# Altium footprint library rcl@1.PCBLIB: 487 footprints (part 6 of 31)
Each footprint in its own frame and in the unit in brackets; x right, y up, seen from the top. Pads: shape width x height; smd on the part's side, far side on the other; paste and mask are expansions set on the pad; w line width, h text height; cw(c..) or ccw(c..) is an arc to the next point about the centre after c.
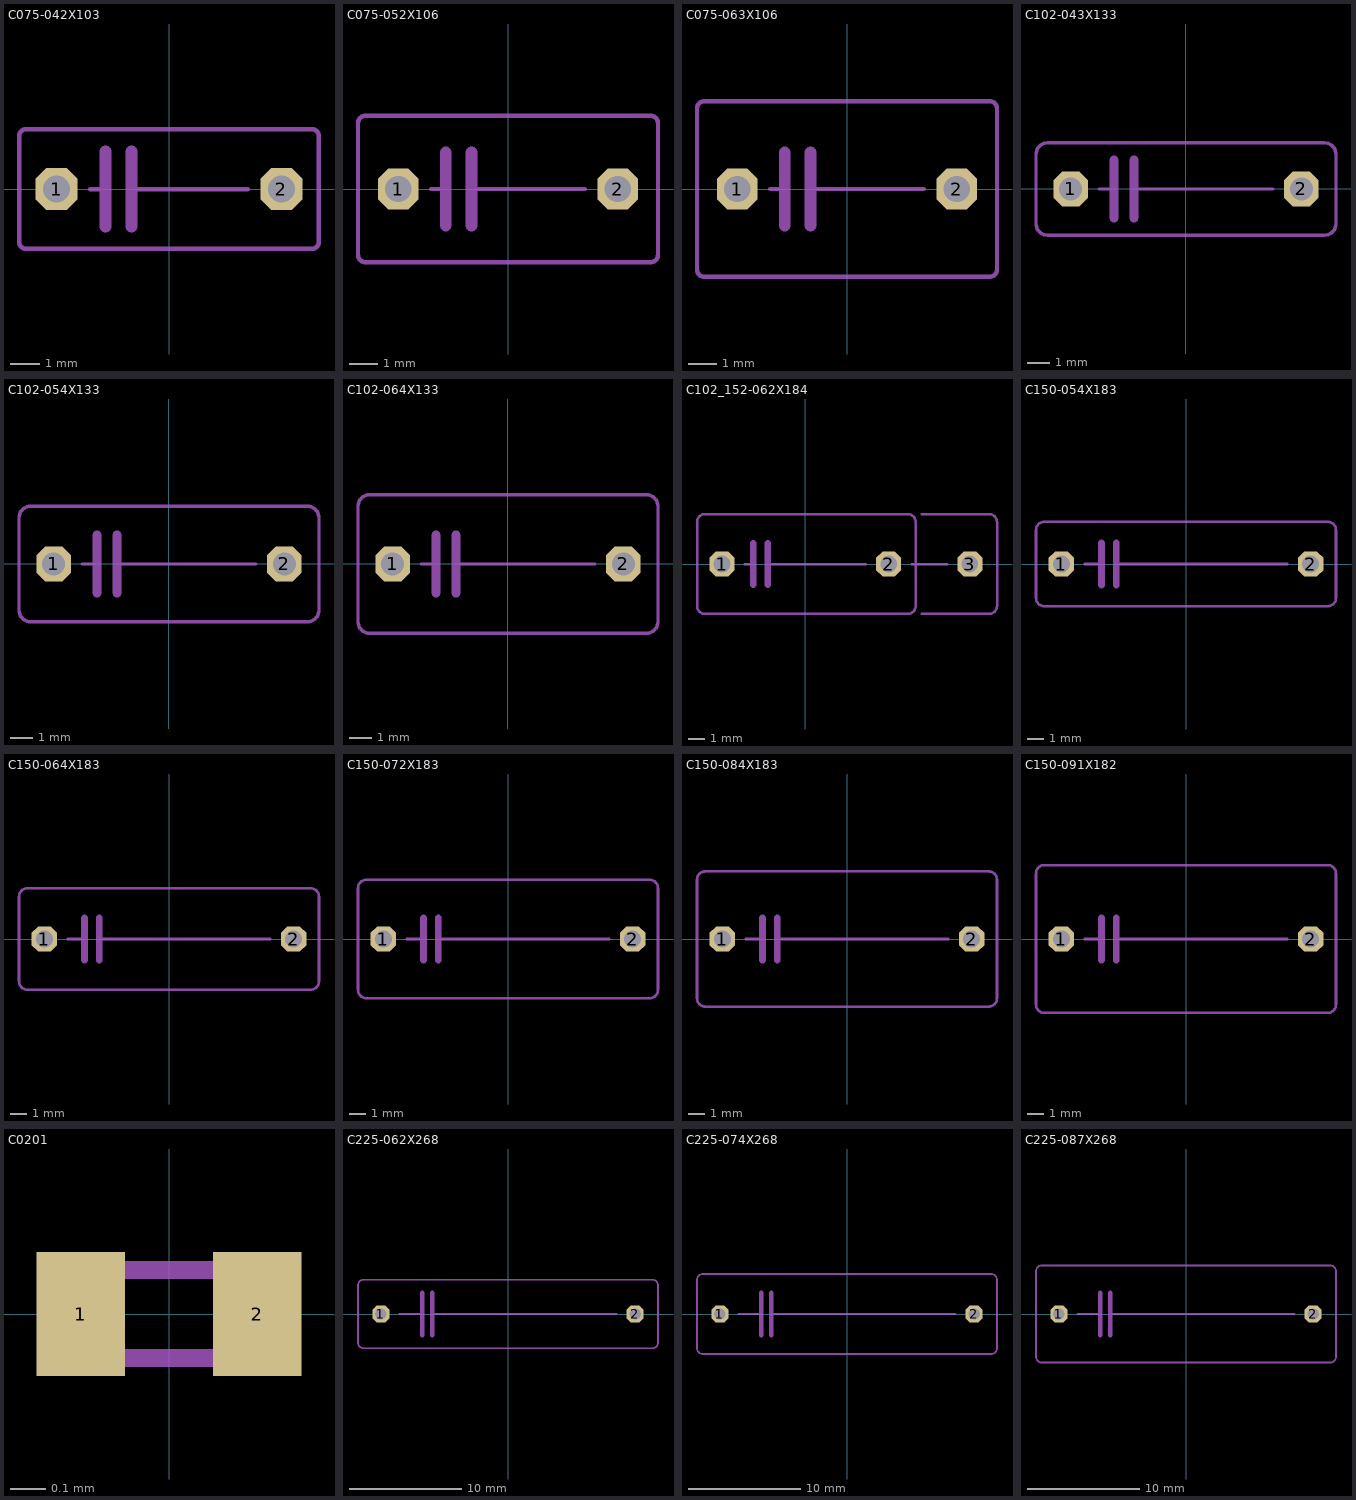
[diagram p5: the footprints below, top view; thin cyan lines are the x and y axes]

## C075-042X103 [mil]
pads (2):
  oct 56x56 / inner round 51.74 / far side oct 56x56 hole 36: 1(-150,0) 2(150,0)
tPlace:
  lines w6: -105,0 -85,0 ; -50,0 105,0 ; -200,-70 -200,70 cw(c-190,70) -190,80 190,80 cw(c190,70) 200,70 200,-70 cw(c190,-70) 190,-80 -190,-80 cw(c-190,-70) -200,-70
  lines w16: -85,-50 -85,0 -85,50 ; -50,-50 -50,0 -50,50

## C075-052X106 [mil]
pads (2):
  oct 56x56 / inner round 51.74 / far side oct 56x56 hole 36: 1(-150,0) 2(150,0)
tPlace:
  lines w6: -105,0 -85,0 ; -50,0 105,0 ; -205,-90 -205,90 cw(c-195,90) -195,100 195,100 cw(c195,90) 205,90 205,-90 cw(c195,-90) 195,-100 -195,-100 cw(c-195,-90) -205,-90
  lines w16: -85,-50 -85,0 -85,50 ; -50,-50 -50,0 -50,50

## C075-063X106 [mil]
pads (2):
  oct 56x56 / inner round 51.74 / far side oct 56x56 hole 36: 1(-150,0) 2(150,0)
tPlace:
  lines w6: -105,0 -85,0 ; -50,0 105,0 ; -205,-110 -205,110 cw(c-195,110) -195,120 195,120 cw(c195,110) 205,110 205,-110 cw(c195,-110) 195,-120 -195,-120 cw(c-195,-110) -205,-110
  lines w16: -85,-50 -85,0 -85,50 ; -50,-50 -50,0 -50,50

## C102-043X133 [mil]
pads (2):
  oct 60x60 / inner round 55.43 / far side oct 60x60 hole 40: 1(-200,0) 2(200,0)
tPlace:
  lines w6: -150,0 -125,0 ; -90,0 150,0 ; -260,-60 -260,60 cw(c-240,60) -240,80 240,80 cw(c240,60) 260,60 260,-60 cw(c240,-60) 240,-80 -240,-80 cw(c-240,-60) -260,-60
  lines w16: -125,-50 -125,0 -125,50 ; -90,-50 -90,0 -90,50

## C102-054X133 [mil]
pads (2):
  oct 60x60 / inner round 55.43 / far side oct 60x60 hole 40: 1(-200,0) 2(200,0)
tPlace:
  lines w6: -150,0 -125,0 ; -90,0 150,0 ; -260,-80 -260,80 cw(c-240,80) -240,100 240,100 cw(c240,80) 260,80 260,-80 cw(c240,-80) 240,-100 -240,-100 cw(c-240,-80) -260,-80
  lines w16: -125,-50 -125,0 -125,50 ; -90,-50 -90,0 -90,50

## C102-064X133 [mil]
pads (2):
  oct 60x60 / inner round 55.43 / far side oct 60x60 hole 40: 1(-200,0) 2(200,0)
tPlace:
  lines w6: -150,0 -125,0 ; -90,0 150,0 ; -260,-100 -260,100 cw(c-240,100) -240,120 240,120 cw(c240,100) 260,100 260,-100 cw(c240,-100) 240,-120 -240,-120 cw(c-240,-100) -260,-100
  lines w16: -125,-50 -125,0 -125,50 ; -90,-50 -90,0 -90,50

## C102_152-062X184 [mil]
pads (3):
  oct 60x60 / inner round 55.43 / far side oct 60x60 hole 40: 1(-200,0) 2(200,0) 3(395,0)
tPlace:
  lines w6: -145,0 -125,0 ; -90,0 145,0 ; 255,0 340,0 ; 280,-120 440,-120 ccw(c440,-100) 460,-100 460,100 ccw(c440,100) 440,120 280,120 ; -260,-100 -260,100 cw(c-240,100) -240,120 245,120 cw(c245,100) 265,100 265,-100 cw(c245,-100) 245,-120 -240,-120 cw(c-240,-100) -260,-100
  lines w16: -125,-50 -125,0 -125,50 ; -90,-50 -90,0 -90,50

## C150-054X183 [mil]
pads (2):
  oct 60x60 / inner round 55.43 / far side oct 60x60 hole 40: 1(-295,0) 2(295,0)
tPlace:
  lines w6: -240,0 -200,0 ; -165,0 240,0 ; -355,-80 -355,80 cw(c-335,80) -335,100 335,100 cw(c335,80) 355,80 355,-80 cw(c335,-80) 335,-100 -335,-100 cw(c-335,-80) -355,-80
  lines w16: -200,-50 -200,0 -200,50 ; -165,-50 -165,0 -165,50

## C150-064X183 [mil]
pads (2):
  oct 60x60 / inner round 55.43 / far side oct 60x60 hole 40: 1(-295,0) 2(295,0)
tPlace:
  lines w6: -240,0 -200,0 ; -165,0 240,0 ; -355,-100 -355,100 cw(c-335,100) -335,120 335,120 cw(c335,100) 355,100 355,-100 cw(c335,-100) 335,-120 -335,-120 cw(c-335,-100) -355,-100
  lines w16: -200,-50 -200,0 -200,50 ; -165,-50 -165,0 -165,50

## C150-072X183 [mil]
pads (2):
  oct 60x60 / inner round 55.43 / far side oct 60x60 hole 40: 1(-295,0) 2(295,0)
tPlace:
  lines w6: -240,0 -200,0 ; -165,0 240,0 ; -355,-120 -355,120 cw(c-335,120) -335,140 335,140 cw(c335,120) 355,120 355,-120 cw(c335,-120) 335,-140 -335,-140 cw(c-335,-120) -355,-120
  lines w16: -200,-50 -200,0 -200,50 ; -165,-50 -165,0 -165,50

## C150-084X183 [mil]
pads (2):
  oct 60x60 / inner round 55.43 / far side oct 60x60 hole 40: 1(-295,0) 2(295,0)
tPlace:
  lines w6: -240,0 -200,0 ; -165,0 240,0 ; -355,-140 -355,140 cw(c-335,140) -335,160 335,160 cw(c335,140) 355,140 355,-140 cw(c335,-140) 335,-160 -335,-160 cw(c-335,-140) -355,-140
  lines w16: -200,-50 -200,0 -200,50 ; -165,-50 -165,0 -165,50

## C150-091X182 [mil]
pads (2):
  oct 60x60 / inner round 55.43 / far side oct 60x60 hole 40: 1(-295,0) 2(295,0)
tPlace:
  lines w6: -240,0 -200,0 ; -165,0 240,0 ; -355,-155 -355,155 cw(c-335,155) -335,175 335,175 cw(c335,155) 355,155 355,-155 cw(c335,-155) 335,-175 -335,-175 cw(c-335,-155) -355,-155
  lines w16: -200,-50 -200,0 -200,50 ; -165,-50 -165,0 -165,50

## C0201 [mm]
pads (2):
  rect 0.25x0.35 smd: 1(-0.25,0) 2(0.25,0)
tDocu:
  region: -0.3,-0.15 -0.3,0.15 -0.15,0.15 -0.15,-0.15
  region: 0.15,-0.15 0.15,0.15 0.3,0.15 0.3,-0.15
  region: -0.15,0.1 -0.15,0.15 0.15,0.15 0.15,0.1
  region: -0.15,-0.15 -0.15,-0.1 0.15,-0.1 0.15,-0.15

## C225-062X268 [mil]
pads (2):
  oct 60x60 / inner round 55.43 / far side oct 60x60 hole 40: 1(-445,0) 2(445,0)
tPlace:
  lines w6: -380,0 -300,0 ; -265,0 380,0 ; -525,-100 -525,100 cw(c-505,100) -505,120 505,120 cw(c505,100) 525,100 525,-100 cw(c505,-100) 505,-120 -505,-120 cw(c-505,-100) -525,-100
  lines w16: -300,-75 -300,0 -300,75 ; -265,-75 -265,0 -265,75

## C225-074X268 [mil]
pads (2):
  oct 60x60 / inner round 55.43 / far side oct 60x60 hole 40: 1(-445,0) 2(445,0)
tPlace:
  lines w6: -380,0 -300,0 ; -265,0 380,0 ; -525,-120 -525,120 cw(c-505,120) -505,140 505,140 cw(c505,120) 525,120 525,-120 cw(c505,-120) 505,-140 -505,-140 cw(c-505,-120) -525,-120
  lines w16: -300,-75 -300,0 -300,75 ; -265,-75 -265,0 -265,75

## C225-087X268 [mil]
pads (2):
  oct 60x60 / inner round 55.43 / far side oct 60x60 hole 40: 1(-445,0) 2(445,0)
tPlace:
  lines w6: -380,0 -300,0 ; -265,0 380,0 ; -525,-150 -525,150 cw(c-505,150) -505,170 505,170 cw(c505,150) 525,150 525,-150 cw(c505,-150) 505,-170 -505,-170 cw(c-505,-150) -525,-150
  lines w16: -300,-75 -300,0 -300,75 ; -265,-75 -265,0 -265,75